# EAGLE library part LTC6803-4 (library LTC6803)
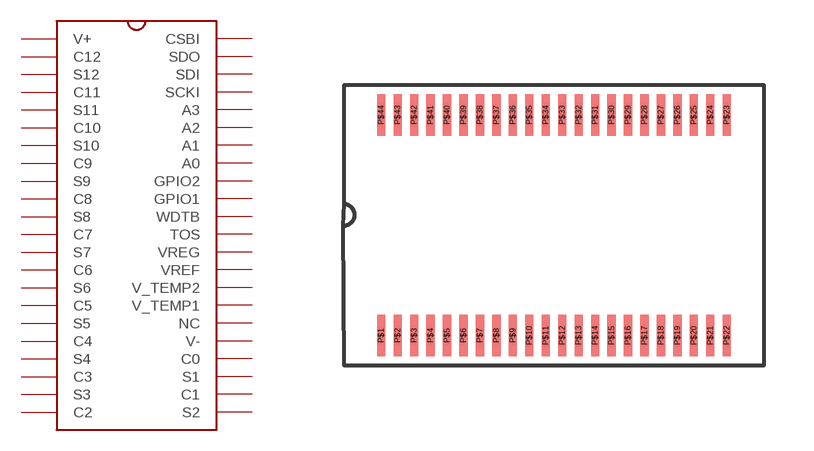
[diagram p0: symbol with the pads of SSOP44; footprint SSOP44]

Designator prefix -

## LTC6803-4  [SSOP44]
P$1  V+
P$2  C12
P$3  S12
P$4  C11
P$5  S11
P$6  C10
P$7  S10
P$8  C9
P$9  S9
P$10  C8
P$11  S8
P$12  C7
P$13  S7
P$14  C6
P$15  S6
P$16  C5
P$17  S5
P$18  C4
P$19  S4
P$20  C3
P$21  S3
P$22  C2
P$23  S2
P$24  C1
P$25  S1
P$26  C0
P$27  V-
P$28  NC
P$29  V_TEMP1
P$30  V_TEMP2
P$31  VREF
P$32  VREG
P$33  TOS
P$34  WDTB
P$35  GPIO1
P$36  GPIO2
P$37  A0
P$38  A1
P$39  A2
P$40  A3
P$41  SCKI
P$42  SDI
P$43  SDO
P$44  CSBI

## Footprint SSOP44 (pad centres in mm)
smd 0.25 x 1.25: P$1 -5.82,-3.33; P$2 -5.32,-3.33; P$3 -4.82,-3.33; P$4 -4.32,-3.33; P$5 -3.82,-3.33; P$6 -3.32,-3.33; P$7 -2.82,-3.33; P$8 -2.32,-3.33; P$9 -1.82,-3.33; P$10 -1.32,-3.33; P$11 -0.82,-3.33; P$12 -0.32,-3.33; P$13 0.18,-3.33; P$14 0.68,-3.33; P$15 1.18,-3.33; P$16 1.68,-3.33; P$17 2.18,-3.33; P$18 2.68,-3.33; P$19 3.18,-3.33; P$20 3.68,-3.33; P$21 4.18,-3.33; P$22 4.68,-3.33; P$23 4.68,3.37; P$24 4.18,3.37; P$25 3.68,3.37; P$26 3.18,3.37; P$27 2.68,3.37; P$28 2.18,3.37; P$29 1.68,3.37; P$30 1.18,3.37; P$31 0.68,3.37; P$32 0.18,3.37; P$33 -0.32,3.37; P$34 -0.82,3.37; P$35 -1.32,3.37; P$36 -1.82,3.37; P$37 -2.32,3.37; P$38 -2.82,3.37; P$39 -3.32,3.37; P$40 -3.82,3.37; P$41 -4.32,3.37; P$42 -4.82,3.37; P$43 -5.32,3.37; P$44 -5.82,3.37